# Altium schematic symbol library FPGA_board.SchLib: 20 symbols
Pins are listed as number, name and electrical type; pins without a type are passive.

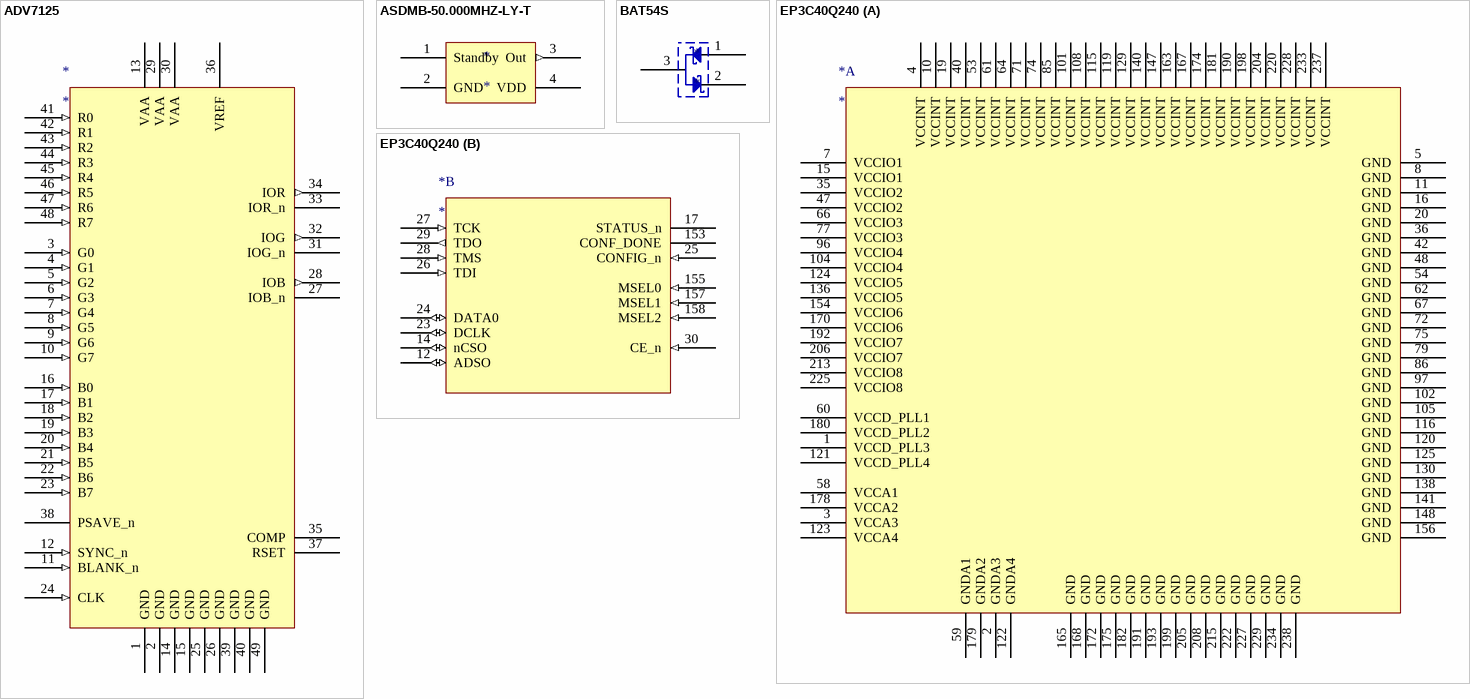
[diagram p0: symbols ADV7125 to EP3C40Q240]

## ADV7125
designator *
footprint LFCSP_VQ48 (QFN, 48-Leads, Body 7,00x7,00mm, Pitch 0,50mm, Thermal Pad 5,10x5,10mm, IPC Low Density)
pins: 1 GND (power), 2 GND (power), 3 G0 (in), 4 G1 (in), 5 G2 (in), 6 G3 (in), 7 G4 (in), 8 G5 (in), 9 G6 (in), 10 G7 (in), 11 BLANK_n (in), 12 SYNC_n (in), 13 VAA (power), 14 GND (power), 15 GND (power), 16 B0 (in), 17 B1 (in), 18 B2 (in), 19 B3 (in), 20 B4 (in), 21 B5 (in), 22 B6 (in), 23 B7 (in), 24 CLK (in), 25 GND (power), 26 GND (power), 27 IOB_n, 28 IOB (out), 29 VAA (power), 30 VAA (power), 31 IOG_n, 32 IOG (out), 33 IOR_n, 34 IOR (out), 35 COMP, 36 VREF (power), 37 RSET, 38 PSAVE_n, 39 GND (power), 40 GND (power), 41 R0 (in), 42 R1 (in), 43 R2 (in), 44 R3 (in), 45 R4 (in), 46 R5 (in), 47 R6 (in), 48 R7 (in), 49 GND (power)

## ASDMB-50.000MHZ-LY-T
designator *
footprint FXU_OSC
pins: 1 Standby, 2 GND (power), 3 Out (out), 4 VDD (power)

## BAT54S
designator *
footprint SOT23_N (SOT23, 3-Leads, Body 2.9x1.3mm, Pitch 0.95mm, Lead Span 2.3mm - Reverse Pinning, IPC Medium Density)
pins: 1, 2, 3

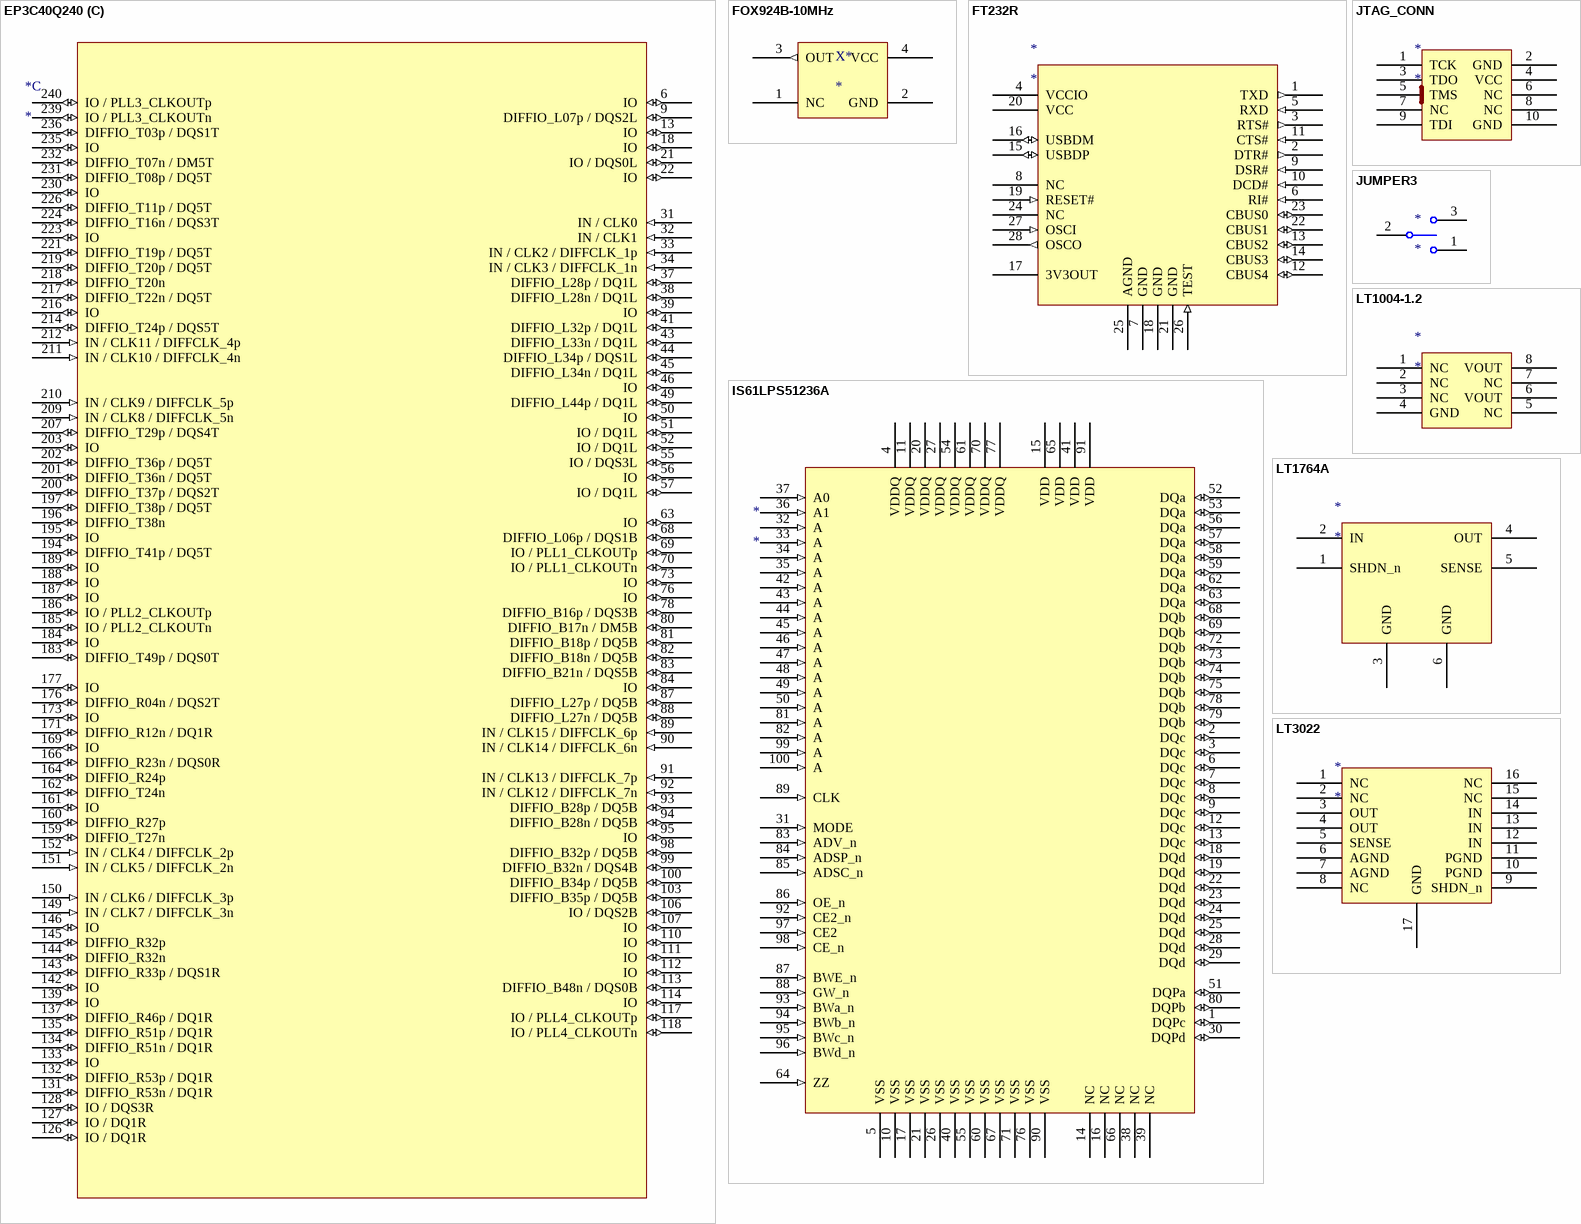
[diagram p1: symbols EP3C40Q240 to LT3022]

## EP3C40Q240
designator *
footprint PQFP240 (SQFP, 240-Leads, Body 32,00x32,00mm, Pitch 0,50mm, IPC Medium Density)
part A pins: 1 VCCD_PLL3 (power), 2 GNDA3 (power), 3 VCCA3 (power), 4 VCCINT (power), 5 GND (power), 7 VCCIO1 (power), 8 GND (power), 10 VCCINT (power), 11 GND (power), 15 VCCIO1 (power), 16 GND (power), 19 VCCINT (power), 20 GND (power), 35 VCCIO2 (power), 36 GND (power), 40 VCCINT (power), 42 GND (power), 47 VCCIO2 (power), 48 GND (power), 53 VCCINT (power), 54 GND (power), 58 VCCA1 (power), 59 GNDA1 (power), 60 VCCD_PLL1 (power), 61 VCCINT (power), 62 GND (power), 64 VCCINT (power), 66 VCCIO3 (power), 67 GND (power), 71 VCCINT (power), 72 GND (power), 74 VCCINT (power), 75 GND (power), 77 VCCIO3 (power), 79 GND (power), 85 VCCINT (power), 86 GND (power), 96 VCCIO4 (power), 97 GND (power), 101 VCCINT (power), 102 GND (power), 104 VCCIO4 (power), 105 GND (power), 108 VCCINT (power), 115 VCCINT (power), 116 GND (power), 119 VCCINT (power), 120 GND (power), 121 VCCD_PLL4 (power), 122 GNDA4 (power), 123 VCCA4 (power), 124 VCCIO5 (power), 125 GND (power), 129 VCCINT (power), 130 GND (power), 136 VCCIO5 (power), 138 GND (power), 140 VCCINT (power), 141 GND (power), 147 VCCINT (power), 148 GND (power), 154 VCCIO6 (power), 156 GND (power), 163 VCCINT (power), 165 GND (power), 167 VCCINT (power), 168 GND (power), 170 VCCIO6 (power), 172 GND (power), 174 VCCINT (power), 175 GND (power), 178 VCCA2 (power), 179 GNDA2 (power), 180 VCCD_PLL2 (power), 181 VCCINT (power), 182 GND (power), 190 VCCINT (power), 191 GND (power), 192 VCCIO7 (power), 193 GND (power), 198 VCCINT (power), 199 GND (power), 204 VCCINT (power), 205 GND (power), 206 VCCIO7 (power), 208 GND (power), 213 VCCIO8 (power), 215 GND (power), 220 VCCINT (power), 222 GND (power), 225 VCCIO8 (power), 227 GND (power), 228 VCCINT (power), 229 GND (power), 233 VCCINT (power), 234 GND (power), 237 VCCINT (power), 238 GND (power)
part B pins: 12 ADSO (io), 14 nCSO (io), 17 STATUS_n (oc), 23 DCLK (io), 24 DATA0 (io), 25 CONFIG_n (in), 26 TDI (in), 27 TCK (in), 28 TMS (in), 29 TDO (out), 30 CE_n (in), 153 CONF_DONE (oc), 155 MSEL0 (in), 157 MSEL1 (in), 158 MSEL2 (in)
part C pins: 6 IO (io), 9 DIFFIO_L07p / DQS2L (io), 13 IO (io), 18 IO (io), 21 IO / DQS0L (io), 22 IO (io), 31 IN / CLK0 (in), 32 IN / CLK1 (in), 33 IN / CLK2 / DIFFCLK_1p (in), 34 IN / CLK3 / DIFFCLK_1n (in), 37 DIFFIO_L28p / DQ1L (io), 38 DIFFIO_L28n / DQ1L (io), 39 IO (io), 41 DIFFIO_L32p / DQ1L (io), 43 DIFFIO_L33n / DQ1L (io), 44 DIFFIO_L34p / DQS1L (io), 45 DIFFIO_L34n / DQ1L (io), 46 IO (io), 49 DIFFIO_L44p / DQ1L (io), 50 IO (io), 51 IO / DQ1L (io), 52 IO / DQ1L (io), 55 IO / DQS3L (io), 56 IO (io), 57 IO / DQ1L (io), 63 IO (io), 68 DIFFIO_L06p / DQS1B (io), 69 IO / PLL1_CLKOUTp (io), 70 IO / PLL1_CLKOUTn (io), 73 IO (io), 76 IO (io), 78 DIFFIO_B16p / DQS3B (io), 80 DIFFIO_B17n / DM5B (io), 81 DIFFIO_B18p / DQ5B (io), 82 DIFFIO_B18n / DQ5B (io), 83 DIFFIO_B21n / DQS5B (io), 84 IO (io), 87 DIFFIO_L27p / DQ5B (io), 88 DIFFIO_L27n / DQ5B (io), 89 IN / CLK15 / DIFFCLK_6p (in), 90 IN / CLK14 / DIFFCLK_6n (in), 91 IN / CLK13 / DIFFCLK_7p (in), 92 IN / CLK12 / DIFFCLK_7n (in), 93 DIFFIO_B28p / DQ5B (io), 94 DIFFIO_B28n / DQ5B (io), 95 IO (io), 98 DIFFIO_B32p / DQ5B (io), 99 DIFFIO_B32n / DQS4B (io), 100 DIFFIO_B34p / DQ5B (io), 103 DIFFIO_B35p / DQ5B (io), 106 IO / DQS2B (io), 107 IO (io), 110 IO (io), 111 IO (io), 112 IO (io), 113 DIFFIO_B48n / DQS0B (io), 114 IO (io), 117 IO / PLL4_CLKOUTp (io), 118 IO / PLL4_CLKOUTn (io), 126 IO / DQ1R (io), 127 IO / DQ1R (io), 128 IO / DQS3R (io), 131 DIFFIO_R53n / DQ1R (io), 132 DIFFIO_R53p / DQ1R (io), 133 IO (io), 134 DIFFIO_R51n / DQ1R (io), 135 DIFFIO_R51p / DQ1R (io), 137 DIFFIO_R46p / DQ1R (io), 139 IO (io), 142 IO (io), 143 DIFFIO_R33p / DQS1R (io), 144 DIFFIO_R32n (io), 145 DIFFIO_R32p (io), 146 IO (io), 149 IN / CLK7 / DIFFCLK_3n (in), 150 IN / CLK6 / DIFFCLK_3p (in), 151 IN / CLK5 / DIFFCLK_2n (in), 152 IN / CLK4 / DIFFCLK_2p (in), 159 DIFFIO_T27n (io), 160 DIFFIO_R27p (io), 161 IO (io), 162 DIFFIO_T24n (io), 164 DIFFIO_R24p (io), 166 DIFFIO_R23n / DQS0R (io), 169 IO (io), 171 DIFFIO_R12n / DQ1R (io), 173 IO (io), 176 DIFFIO_R04n / DQS2T (io), 177 IO (io), 183 DIFFIO_T49p / DQS0T (io), 184 IO (io), 185 IO / PLL2_CLKOUTn (io), 186 IO / PLL2_CLKOUTp (io), 187 IO (io), 188 IO (io), 189 IO (io), 194 DIFFIO_T41p / DQ5T (io), 195 IO (io), 196 DIFFIO_T38n (io), 197 DIFFIO_T38p / DQ5T (io), 200 DIFFIO_T37p / DQS2T (io), 201 DIFFIO_T36n / DQ5T (io), 202 DIFFIO_T36p / DQ5T (io), 203 IO (io), 207 DIFFIO_T29p / DQS4T (io), 209 IN / CLK8 / DIFFCLK_5n (in), 210 IN / CLK9 / DIFFCLK_5p (in), 211 IN / CLK10 / DIFFCLK_4n (in), 212 IN / CLK11 / DIFFCLK_4p (in), 214 DIFFIO_T24p / DQS5T (io), 216 IO (io), 217 DIFFIO_T22n / DQ5T (io), 218 DIFFIO_T20n (io), 219 DIFFIO_T20p / DQ5T (io), 221 DIFFIO_T19p / DQ5T (io), 223 IO (io), 224 DIFFIO_T16n / DQS3T (io), 226 DIFFIO_T11p / DQ5T (io), 230 IO (io), 231 DIFFIO_T08p / DQ5T (io), 232 DIFFIO_T07n / DM5T (io), 235 IO (io), 236 DIFFIO_T03p / DQS1T (io), 239 IO / PLL3_CLKOUTn (io), 240 IO / PLL3_CLKOUTp (io)

## FOX924B-10MHz
designator X*
pins: 1 NC, 2 GND (power), 3 OUT (out), 4 VCC (power)

## FT232R
designator *
footprint SSOP28 (SOP, 28-Leads, Body 10,20x5,30mm, Pitch 0,65mm, IPC Medium Density)
pins: 1 TXD (out), 2 DTR# (out), 3 RTS# (out), 4 VCCIO (power), 5 RXD (in), 6 RI# (in), 7 GND (power), 8 NC, 9 DSR# (in), 10 DCD# (in), 11 CTS# (in), 12 CBUS4 (io), 13 CBUS2 (io), 14 CBUS3 (io), 15 USBDP (io), 16 USBDM (io), 17 3V3OUT (power), 18 GND (power), 19 RESET# (in), 20 VCC (power), 21 GND (power), 22 CBUS1 (io), 23 CBUS0 (io), 24 NC, 25 AGND (power), 26 TEST (in), 27 OSCI (in), 28 OSCO (out)

## IS61LPS51236A
designator *
18Mb 36-bit SRAM
footprint TQFP100
pins: 1 DQPc (io), 2 DQc (io), 3 DQc (io), 4 VDDQ (power), 5 VSS (power), 6 DQc (io), 7 DQc (io), 8 DQc (io), 9 DQc (io), 10 VSS (power), 11 VDDQ (power), 12 DQc (io), 13 DQc (io), 14 NC, 15 VDD (power), 16 NC, 17 VSS (power), 18 DQd (io), 19 DQd (io), 20 VDDQ (power), 21 VSS (power), 22 DQd (io), 23 DQd (io), 24 DQd (io), 25 DQd (io), 26 VSS (power), 27 VDDQ (power), 28 DQd (io), 29 DQd (io), 30 DQPd (io), 31 MODE (in), 32 A (in), 33 A (in), 34 A (in), 35 A (in), 36 A1 (in), 37 A0 (in), 38 NC, 39 NC, 40 VSS (power), 41 VDD (power), 42 A (in), 43 A (in), 44 A (in), 45 A (in), 46 A (in), 47 A (in), 48 A (in), 49 A (in), 50 A (in), 51 DQPa (io), 52 DQa (io), 53 DQa (io), 54 VDDQ (power), 55 VSS (power), 56 DQa (io), 57 DQa (io), 58 DQa (io), 59 DQa (io), 60 VSS (power), 61 VDDQ (power), 62 DQa (io), 63 DQa (io), 64 ZZ (in), 65 VDD (power), 66 NC, 67 VSS (power), 68 DQb (io), 69 DQb (io), 70 VDDQ (power), 71 VSS (power), 72 DQb (io), 73 DQb (io), 74 DQb (io), 75 DQb (io), 76 VSS (power), 77 VDDQ (power), 78 DQb (io), 79 DQb (io), 80 DQPb (io), 81 A (in), 82 A (in), 83 ADV_n (in), 84 ADSP_n (in), 85 ADSC_n (in), 86 OE_n (in), 87 BWE_n (in), 88 GW_n (in), 89 CLK (in), 90 VSS (power), 91 VDD (power), 92 CE2_n (in), 93 BWa_n (in), 94 BWb_n (in), 95 BWc_n (in), 96 BWd_n (in), 97 CE2 (in), 98 CE_n (in), 99 A (in), 100 A (in)

## JTAG_CONN
designator *
footprint JTAG_CONN
pins: 1 TCK, 2 GND, 3 TDO, 4 VCC, 5 TMS, 6 NC, 7 NC, 8 NC, 9 TDI, 10 GND

## JUMPER3
designator *
footprint HDR1X3 (Connector; Header; 3 Position)
pins: 1, 2, 3

## LT1004-1.2
designator *
pins: 1 NC, 2 NC, 3 NC, 4 GND, 5 NC, 6 VOUT, 7 NC, 8 VOUT

## LT1764A
designator *
pins: 1 SHDN_n, 2 IN, 3 GND, 4 OUT, 5 SENSE, 6 GND

## LT3022
designator *
pins: 1 NC, 2 NC, 3 OUT, 4 OUT, 5 SENSE, 6 AGND, 7 AGND, 8 NC, 9 SHDN_n, 10 PGND, 11 PGND, 12 IN, 13 IN, 14 IN, 15 NC, 16 NC, 17 GND

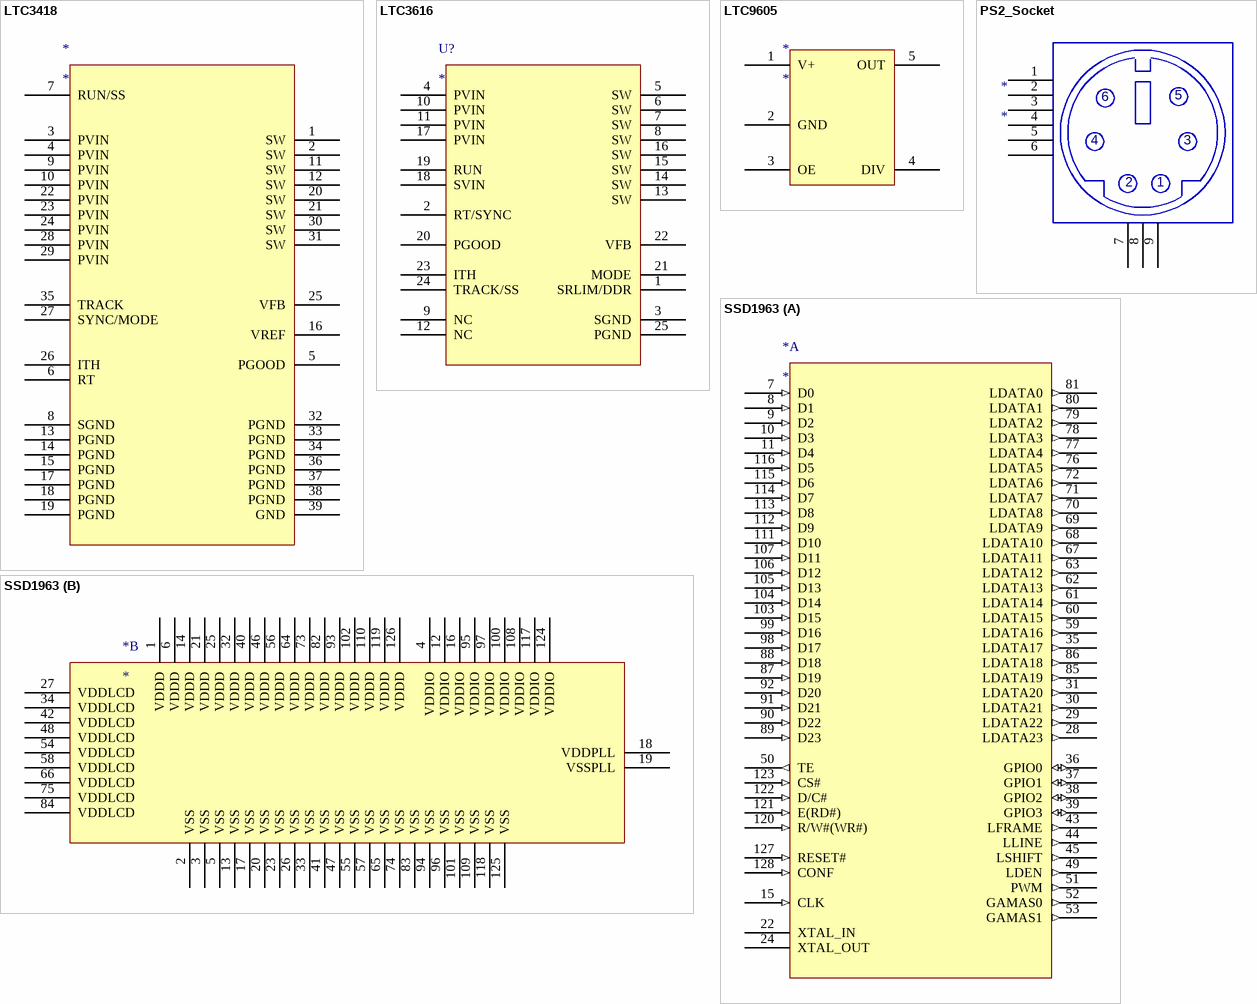
[diagram p2: symbols LTC3418 to SSD1963]

## LTC3418
designator *
pins: 1 SW, 2 SW, 3 PVIN, 4 PVIN, 5 PGOOD, 6 RT, 7 RUN/SS, 8 SGND, 9 PVIN, 10 PVIN, 11 SW, 12 SW, 13 PGND, 14 PGND, 15 PGND, 16 VREF, 17 PGND, 18 PGND, 19 PGND, 20 SW, 21 SW, 22 PVIN, 23 PVIN, 24 PVIN, 25 VFB, 26 ITH, 27 SYNC/MODE, 28 PVIN, 29 PVIN, 30 SW, 31 SW, 32 PGND, 33 PGND, 34 PGND, 35 TRACK, 36 PGND, 37 PGND, 38 PGND, 39 GND

## LTC3616
designator U?
Step-Down, 6A, 4MHz
pins: 1 SRLIM/DDR, 2 RT/SYNC, 3 SGND, 4 PVIN, 5 SW, 6 SW, 7 SW, 8 SW, 9 NC, 10 PVIN, 11 PVIN, 12 NC, 13 SW, 14 SW, 15 SW, 16 SW, 17 PVIN, 18 SVIN, 19 RUN, 20 PGOOD, 21 MODE, 22 VFB, 23 ITH, 24 TRACK/SS, 25 PGND

## LTC9605
designator *
footprint Model Name (Model Description)
pins: 1 V+, 2 GND, 3 OE, 4 DIV, 5 OUT

## PS2_Socket
designator *
footprint PS2-6PIN (PS2 Socket, 6 Pin, Through Hole)
pins: 1, 2, 3, 4, 5, 6, 7, 8, 9

## SSD1963
designator *
footprint LQFP128-0.4
part A pins: 7 D0 (in), 8 D1 (in), 9 D2 (in), 10 D3 (in), 11 D4 (in), 15 CLK (in), 22 XTAL_IN, 24 XTAL_OUT, 28 LDATA23 (out), 29 LDATA22 (out), 30 LDATA21 (out), 31 LDATA20 (out), 35 LDATA17 (out), 36 GPIO0 (io), 37 GPIO1 (io), 38 GPIO2 (io), 39 GPIO3 (io), 43 LFRAME (out), 44 LLINE (out), 45 LSHIFT (out), 49 LDEN (out), 50 TE (out), 51 PWM (out), 52 GAMAS0 (out), 53 GAMAS1 (out), 59 LDATA16 (out), 60 LDATA15 (out), 61 LDATA14 (out), 62 LDATA13 (out), 63 LDATA12 (out), 67 LDATA11 (out), 68 LDATA10 (out), 69 LDATA9 (out), 70 LDATA8 (out), 71 LDATA7 (out), 72 LDATA6 (out), 76 LDATA5 (out), 77 LDATA4 (out), 78 LDATA3 (out), 79 LDATA2 (out), 80 LDATA1 (out), 81 LDATA0 (out), 85 LDATA19 (out), 86 LDATA18 (out), 87 D19 (in), 88 D18 (in), 89 D23 (in), 90 D22 (in), 91 D21 (in), 92 D20 (in), 98 D17 (in), 99 D16 (in), 103 D15 (in), 104 D14 (in), 105 D13 (in), 106 D12 (in), 107 D11 (in), 111 D10 (in), 112 D9 (in), 113 D8 (in), 114 D7 (in), 115 D6 (in), 116 D5 (in), 120 R/W#(WR#) (in), 121 E(RD#) (in), 122 D/C# (in), 123 CS# (in), 127 RESET# (in), 128 CONF (in)
part B pins: 1 VDDD (power), 2 VSS (power), 3 VSS (power), 4 VDDIO (power), 5 VSS (power), 6 VDDD (power), 12 VDDIO (power), 13 VSS (power), 14 VDDD (power), 16 VDDIO (power), 17 VSS (power), 18 VDDPLL (power), 19 VSSPLL (power), 20 VSS (power), 21 VDDD (power), 23 VSS (power), 25 VDDD (power), 26 VSS (power), 27 VDDLCD (power), 32 VDDD (power), 33 VSS (power), 34 VDDLCD (power), 40 VDDD (power), 41 VSS (power), 42 VDDLCD (power), 46 VDDD (power), 47 VSS (power), 48 VDDLCD (power), 54 VDDLCD (power), 55 VSS (power), 56 VDDD (power), 57 VSS (power), 58 VDDLCD (power), 64 VDDD (power), 65 VSS (power), 66 VDDLCD (power), 73 VDDD (power), 74 VSS (power), 75 VDDLCD (power), 82 VDDD (power), 83 VSS (power), 84 VDDLCD (power), 93 VDDD (power), 94 VSS (power), 95 VDDIO (power), 96 VSS (power), 97 VDDIO (power), 100 VDDIO (power), 101 VSS (power), 102 VDDD (power), 108 VDDIO (power), 109 VSS (power), 110 VDDD (power), 117 VDDIO (power), 118 VSS (power), 119 VDDD (power), 124 VDDIO (power), 125 VSS (power), 126 VDDD (power)

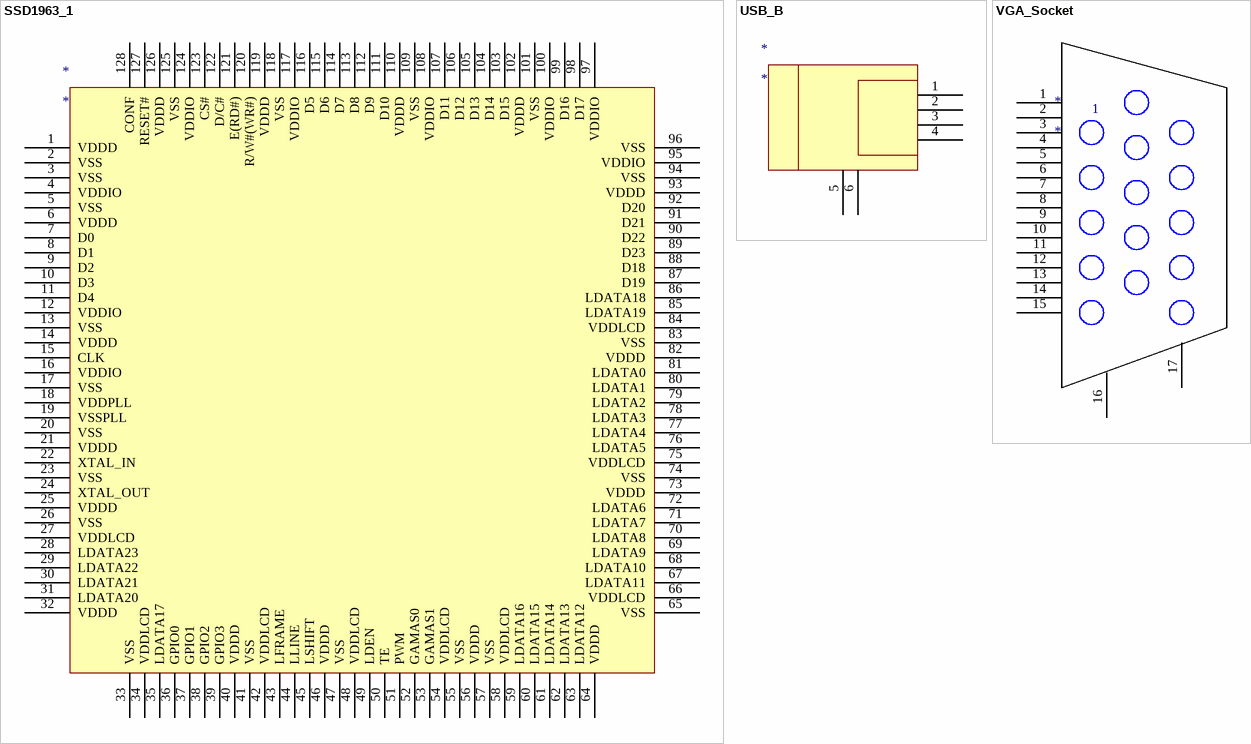
[diagram p3: symbols SSD1963_1 to VGA_Socket]

## SSD1963_1
designator *
pins: 1 VDDD, 2 VSS, 3 VSS, 4 VDDIO, 5 VSS, 6 VDDD, 7 D0, 8 D1, 9 D2, 10 D3, 11 D4, 12 VDDIO, 13 VSS, 14 VDDD, 15 CLK, 16 VDDIO, 17 VSS, 18 VDDPLL, 19 VSSPLL, 20 VSS, 21 VDDD, 22 XTAL_IN, 23 VSS, 24 XTAL_OUT, 25 VDDD, 26 VSS, 27 VDDLCD, 28 LDATA23, 29 LDATA22, 30 LDATA21, 31 LDATA20, 32 VDDD, 33 VSS, 34 VDDLCD, 35 LDATA17, 36 GPIO0, 37 GPIO1, 38 GPIO2, 39 GPIO3, 40 VDDD, 41 VSS, 42 VDDLCD, 43 LFRAME, 44 LLINE, 45 LSHIFT, 46 VDDD, 47 VSS, 48 VDDLCD, 49 LDEN, 50 TE, 51 PWM, 52 GAMAS0, 53 GAMAS1, 54 VDDLCD, 55 VSS, 56 VDDD, 57 VSS, 58 VDDLCD, 59 LDATA16, 60 LDATA15, 61 LDATA14, 62 LDATA13, 63 LDATA12, 64 VDDD, 65 VSS, 66 VDDLCD, 67 LDATA11, 68 LDATA10, 69 LDATA9, 70 LDATA8, 71 LDATA7, 72 LDATA6, 73 VDDD, 74 VSS, 75 VDDLCD, 76 LDATA5, 77 LDATA4, 78 LDATA3, 79 LDATA2, 80 LDATA1, 81 LDATA0, 82 VDDD, 83 VSS, 84 VDDLCD, 85 LDATA19, 86 LDATA18, 87 D19, 88 D18, 89 D23, 90 D22, 91 D21, 92 D20, 93 VDDD, 94 VSS, 95 VDDIO, 96 VSS, 97 VDDIO, 98 D17, 99 D16, 100 VDDIO, 101 VSS, 102 VDDD, 103 D15, 104 D14, 105 D13, 106 D12, 107 D11, 108 VDDIO, 109 VSS, 110 VDDD, 111 D10, 112 D9, 113 D8, 114 D7, 115 D6, 116 D5, 117 VDDIO, 118 VSS, 119 VDDD, 120 R/W#(WR#), 121 E(RD#), 122 D/C#, 123 CS#, 124 VDDIO, 125 VSS, 126 VDDD, 127 RESET#, 128 CONF

## USB_B
designator *
footprint USB_B
pins: 1, 2, 3, 4, 5, 6

## VGA_Socket
designator *
footprint VGA_Socket
pins: 1, 2, 3, 4, 5, 6, 7, 8, 9, 10, 11, 12, 13, 14, 15, 16, 17